# Altium footprint library HW_IPC-to-MCU-V1_V1.PcbLib: 28 footprints (part 1 of 2)
Each footprint in its own frame and in the unit in brackets; x right, y up, seen from the top. Pads: shape width x height; smd on the part's side, far side on the other; paste and mask are expansions set on the pad; w line width, h text height; cw(c..) or ccw(c..) is an arc to the next point about the centre after c.
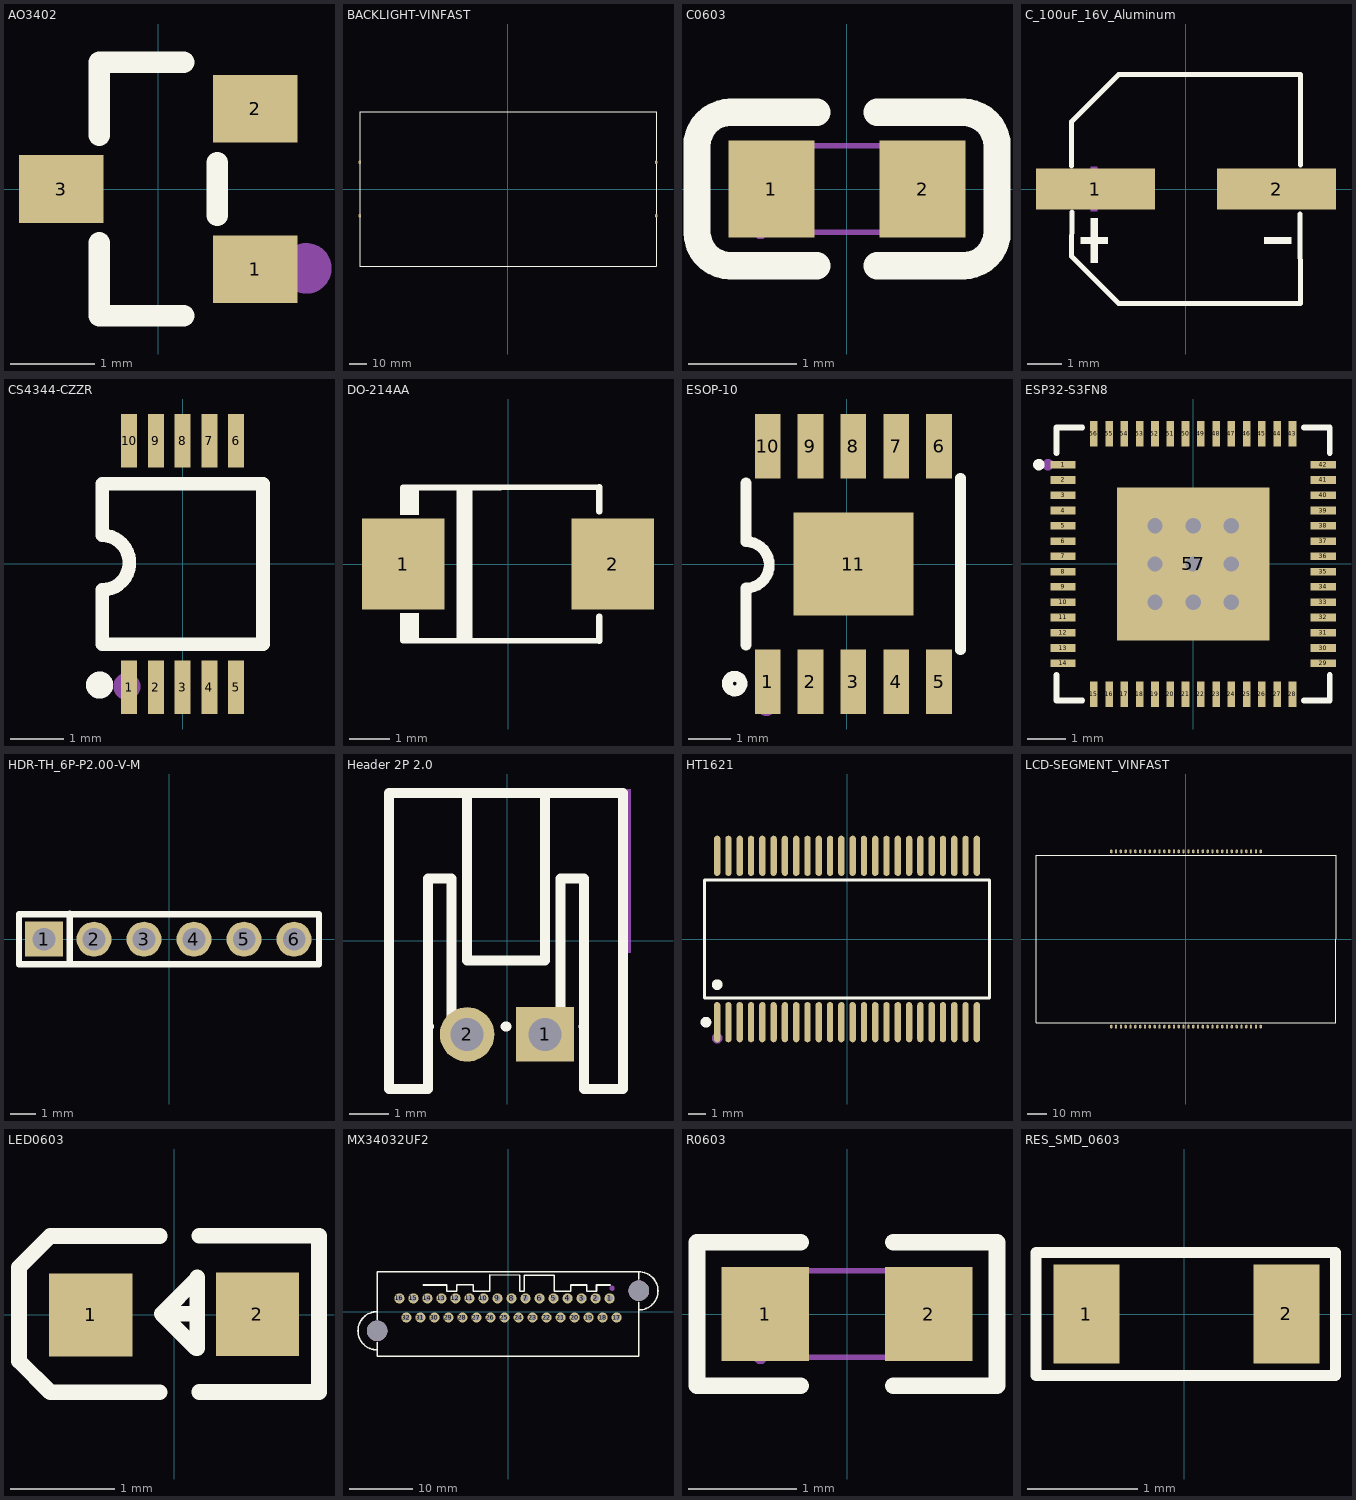
[diagram p0: the footprints below, top view; thin cyan lines are the x and y axes]

## AO3402 [mm]
pads (3):
  rect 1x0.8 smd paste+0 mask+0.051: 1(1.15,-0.95) 2(1.15,0.95) 3(-1.15,0)
Top Overlay:
  lines w0.254: -0.7,-0.636 -0.7,-1.5 0.3,-1.5 ; -0.7,0.636 -0.7,1.5 0.3,1.5 ; 0.7,-0.314 0.7,0.314
Mechanical 15:
  circle w0.3: c1.753,-0.94 r0.15
3D body "SOT23-3.step": height 1.1, standoff 0, extent -1.251,-1.499 1.249,1.499

## BACKLIGHT-VINFAST [mm]
pads (4):
  oval 1.2x2 hole 0.8: 1(-83.5,15) 2(-83.5,-15) 3(83.5,-15) 4(83.5,15)
Top Overlay:
  lines w0.254: -83.5,-43.5 -83.5,43.5 83.5,43.5 83.5,-43.5 -83.5,-43.5
3D body "Back light.stp": height 3.6, standoff 0.3, extent -85,-43.5 85,43.5

## C0603 [mm]
pads (2):
  rect 0.8x0.9 smd: 1(-0.7,0) 2(0.7,0)
Top Overlay:
  lines w0.254: -1.08,-0.71 -0.28,-0.71 ; -1.08,0.71 -0.28,0.71 ; -1.08,-0.71 cw(c-1.08,-0.4) -1.39,-0.4 -1.39,0.4 cw(c-1.08,0.4) -1.08,0.71 ; 0.28,-0.71 1.08,-0.71 ccw(c1.08,-0.4) 1.39,-0.4 1.39,0.4 ccw(c1.08,0.4) 1.08,0.71 0.28,0.71
Mechanical 15:
  region: -0.8,-0.4 -0.8,0.4 -0.5,0.4 -0.5,-0.4
  region: 0.8,-0.4 0.8,0.4 0.5,0.4 0.5,-0.4
  region: -0.74,-0.4 -0.74,-0.425 -0.775,-0.46 -0.825,-0.46 -0.86,-0.425 -0.86,-0.4 -0.86,-0.375 -0.825,-0.34 -0.775,-0.34 -0.74,-0.375
  lines w0.051: -0.8,-0.4 -0.8,0.4 0.8,0.4 0.8,-0.4 -0.8,-0.4
3D body "C0603.step": height 0.4, standoff 0, extent -0.8,-0.4 0.8,0.4

## C_100uF_16V_Aluminum [mm]
pads (2):
  rect 3.5x1.2 smd paste+0 mask+0.051: 1(-2.67,0) 2(2.67,0)
Top Overlay:
  region: 3.102,-1.419 3.102,-1.617 2.31,-1.617 2.31,-1.419
  region: -3.102,-1.419 -3.102,-1.617 -2.31,-1.617 -2.31,-1.419
  region: -2.805,-0.858 -2.805,-2.178 -2.607,-2.178 -2.607,-0.858
  lines w0.152: -3.376,0.686 -3.376,1.98 -1.98,3.376 3.376,3.376 3.369,0.708 ; -3.362,-0.686 -3.376,-1.981 -1.981,-3.376 3.376,-3.376 3.356,-0.739
Mechanical 15:
  region: 3.102,0.099 3.102,-0.099 2.31,-0.099 2.31,0.099
  region: -3.102,0.099 -3.102,-0.099 -2.31,-0.099 -2.31,0.099
  region: -2.81,0.66 -2.81,-0.66 -2.612,-0.66 -2.612,0.66
3D body "EEE1CA101WAP.STEP": height 5.8, standoff 0, extent -3.65,-3.3 3.65,3.3

## CS4344-CZZR [mm]
pads (10):
  rect 0.3x1 smd paste+0 mask+0.051: 1(-1,-2.3) 2(-0.5,-2.3) 3(0,-2.3) 4(0.5,-2.3) 5(1,-2.3) 6(1,2.3) 7(0.5,2.3) 8(0,2.3) 9(-0.5,2.3) 10(-1,2.3)
Top Overlay:
  circle w0.254: c-1.549,-2.261 r0.127
  lines w0.254: -1.501,-0.483 ccw(c-1.501,0.025) -1.5,0.533 -1.5,1.5 1.5,1.5 1.5,-1.5 -1.5,-1.5 -1.5,-0.483
Mechanical 15:
  circle w0.254: c-1.041,-2.286 r0.127
3D body "TSSOP-10-3mm.STEP": height 1.11, standoff 0, extent -1.5,-2.45 1.5,2.45

## DO-214AA [mm]
pads (2):
  rect 2.047x2.241 smd paste+0 mask+0.051: 1(-2.591,0) 2(2.591,0)
Top Overlay:
  region: -2.667,-1.905 -2.667,-1.215 -2.21,-1.215 -2.21,-1.905
  region: -2.667,1.905 -2.667,1.215 -2.21,1.215 -2.21,1.905
  region: -1.27,1.892 -1.27,-1.895 -0.889,-1.895 -0.889,1.893
  lines w0.152: -2.597,1.889 2.253,1.905 2.257,1.905 2.257,1.301 ; -2.593,-1.892 2.257,-1.905 2.257,-1.301
Mechanical 15:
  region: -3.492,-0.127 -3.492,0.127 -1.841,0.127 -1.841,-0.127
  region: 2.724,-0.828 2.47,-0.828 2.47,0.823 2.724,0.823
  region: 1.771,-0.129 1.771,0.125 3.422,0.125 3.422,-0.129
3D body "DO-214AA(SMB).SLDPRT": height 1.2, standoff -1.35, extent -2.774,-1.968 2.774,1.968

## ESOP-10 [mm]
pads (11):
  rect 0.6x1.5 smd paste+0 mask+0.051: 1(-1.843,-2.75) 2(-0.843,-2.75) 3(0.157,-2.75) 4(1.157,-2.75) 5(2.157,-2.75) 6(2.157,2.75) 7(1.157,2.75) 8(0.157,2.75) 9(-0.843,2.75) 10(-1.843,2.75)
  rect 2.8x2.4 smd paste+0 mask+0.051: 11(0.157,0)
Top Overlay:
  circle w0.254: c-2.613,-2.79 r0.171
  lines w0.254: -2.343,-1.887 -2.343,-0.564 ; -2.343,-0.563 ccw(c-2.347,-0.021) -2.343,0.52 -2.343,1.887 ; 2.657,-2 2.657,2
Mechanical 15:
  circle w0.2: c-1.873,-3.35 r0.1
3D body "ESOP-10.STEP": height 1.69, standoff 0.03, extent -2.233,-2.74 2.667,2.74

## ESP32-S3FN8 [mm]
pads (57):
  rect 0.665x0.2 smd paste-100 mask+0.051: 1(-3.408,2.6) 2(-3.408,2.2) 3(-3.408,1.8) 4(-3.408,1.4) 5(-3.408,1) 6(-3.408,0.6) 7(-3.408,0.2) 8(-3.408,-0.2) 9(-3.408,-0.6) 10(-3.408,-1) 11(-3.408,-1.4) 12(-3.408,-1.8) 13(-3.408,-2.2) 14(-3.408,-2.6) 29(3.408,-2.6) 30(3.408,-2.2) 31(3.408,-1.8) 32(3.408,-1.4) 33(3.408,-1) 34(3.408,-0.6) 35(3.408,-0.2) 36(3.408,0.2) 37(3.408,0.6) 38(3.408,1) 39(3.408,1.4) 40(3.408,1.8) 41(3.408,2.2) 42(3.408,2.6)
  rect 0.2x0.665 smd paste-100 mask+0.051: 15(-2.6,-3.408) 16(-2.2,-3.408) 17(-1.8,-3.408) 18(-1.4,-3.408) 19(-1,-3.408) 20(-0.6,-3.408) 21(-0.2,-3.408) 22(0.2,-3.408) 23(0.6,-3.408) 24(1,-3.408) 25(1.4,-3.408) 26(1.8,-3.408) 27(2.2,-3.408) 28(2.6,-3.408) 43(2.6,3.408) 44(2.2,3.408) 45(1.8,3.408) 46(1.4,3.408) 47(1,3.408) 48(0.6,3.408) 49(0.2,3.408) 50(-0.2,3.408) 51(-0.6,3.408) 52(-1,3.408) 53(-1.4,3.408) 54(-1.8,3.408) 55(-2.2,3.408) 56(-2.6,3.408)
  rect 4x4 smd paste-100 mask+0.051: 57(0,0)
via 1,0 diameter 0.7 hole 0.4
via 1,1 diameter 0.7 hole 0.4
via -1,0 diameter 0.7 hole 0.4
via -1,1 diameter 0.7 hole 0.4
via 1,-1 diameter 0.7 hole 0.4
via -1,-1 diameter 0.7 hole 0.4
via 0,0 diameter 0.7 hole 0.4
via 0.001,-1 diameter 0.7 hole 0.4
via 0,1 diameter 0.7 hole 0.4
Top Overlay:
  circle w0.15: c-4.04,2.6 r0.075
  lines w0.152: -3.576,-2.903 -3.576,-3.576 -2.903,-3.576 ; -3.576,2.903 -3.576,3.576 -2.903,3.576 ; 2.903,-3.576 3.576,-3.576 3.576,-2.903 ; 2.903,3.576 3.576,3.576 3.576,2.903
Top Paste:
  drawing of 57 lines, arcs and shapes, not listed
Mechanical 15:
  circle w0.15: c-3.8,2.6 r0.075
3D body "ESP32-S3FN8--3DModel-STEP-56544.STEP": height 0.9, standoff 0, extent -3.495,-3.5 3.505,3.5

## HDR-TH_6P-P2.00-V-M [mm]
pads (6):
  rect 1.524x1.4 hole 0.9 paste-2539.97 mask+0.051: 1(-5,-0.008)
  round 1.4 hole 0.9 paste-2539.97 mask+0.051: 2(-3,-0.008) 3(-1,-0.008) 4(1,-0.008) 5(3,-0.008) 6(5,-0.008)
Top Overlay:
  lines w0.254: -3.969,-0.897 -3.969,1.008 ; -6,-1.008 -6,0.992 6,0.992 6,-1.008 -6,-1.008

## Header 2P 2.0 [mm]
pads (2):
  rect 1.5x1.4 hole 0.85 paste-2539.97 mask+0.051: 1(0.963,-2.4)
  round 1.4 hole 0.85 paste-2539.97 mask+0.051: 2(-1.036,-2.4)
Top Overlay:
  lines w0.254: -2.018,-2.2 -2.036,-2.2 ; -1.436,-2.2 -1.436,1.6 -2.036,1.6 -2.036,-2.2 ; -1.036,3.8 -1.036,-0.5 0.963,-0.5 0.963,3.7 ; -0.055,-2.2 -0.018,-2.2 ; 1.363,-2.2 1.363,1.6 1.963,1.6 1.963,-2.2 ; 1.945,-2.2 1.963,-2.2 ; 2.963,3.759 2.963,-3.8 1.963,-3.8 1.963,-2.2 ; 2.963,3.8 -3.036,3.8 -3.036,-3.8 -2.036,-3.8 -2.036,-2.2
Mechanical 15:
  region: 3.163,3.9 3.163,-0.3 2.863,-0.3 2.863,3.7 -2.936,3.7 -2.936,-0.2 -3.136,-0.2 -3.136,3.9
3D body "header 2 cong.stp": height 6.01, standoff 0.01, extent -3.607,-3.81 3.503,3.81

## HT1621 [mil]
pads (48):
  oval 14x89.24 smd paste+0 mask+2: 1(-287.5,-184.19) 2(-262.5,-184.19) 3(-237.5,-184.19) 4(-212.5,-184.19) 5(-187.5,-184.19) 6(-162.5,-184.19) 7(-137.5,-184.19) 8(-112.5,-184.19) 9(-87.5,-184.19) 10(-62.5,-184.19) 11(-37.5,-184.19) 12(-12.5,-184.19) 13(12.5,-184.19) 14(37.5,-184.19) 15(62.5,-184.19) 16(87.5,-184.19) 17(112.5,-184.19) 18(137.5,-184.19) 19(162.5,-184.19) 20(187.5,-184.19) 21(212.5,-184.19) 22(237.5,-184.19) 23(262.5,-184.19) 24(287.5,-184.19) 25(287.5,184.19) 26(262.5,184.19) 27(237.5,184.19) 28(212.5,184.19) 29(187.5,184.19) 30(162.5,184.19) 31(137.5,184.19) 32(112.5,184.19) 33(87.5,184.19) 34(62.5,184.19) 35(37.5,184.19) 36(12.5,184.19) 37(-12.5,184.19) 38(-37.5,184.19) 39(-62.5,184.19) 40(-87.5,184.19) 41(-112.5,184.19) 42(-137.5,184.19) 43(-162.5,184.19) 44(-187.5,184.19) 45(-212.5,184.19) 46(-237.5,184.19) 47(-262.5,184.19) 48(-287.5,184.19)
Top Overlay:
  circle w11.81: c-287.5,-100.95 r5.91
  circle w11.81: c-312.31,-184.19 r5.91
  lines w6: -315.5,-130.57 -315.5,130.57 315.5,130.57 315.5,-130.57 -315.5,-130.57
Mechanical 15:
  circle w11.81: c-287.5,-219.49 r5.91
3D body "48SSOP.stp": height 103, standoff 0, extent -308,-209.76 322,207.76

## LCD-SEGMENT_VINFAST [mm]
pads (64):
  oval 1.2x2 hole 0.8: 1(-39.37,46.15) 2(-36.83,46.15) 3(-34.33,46.15) 4(-31.75,46.15) 5(-29.21,46.15) 6(-26.67,46.15) 7(-24.13,46.15) 8(-21.59,46.15) 9(-19.05,46.15) 10(-16.51,46.15) 11(-13.97,46.15) 12(-11.43,46.15) 13(-8.89,46.15) 14(-6.35,46.15) 15(-3.81,46.15) 16(-1.27,46.15) 17(1.27,46.15) 18(3.81,46.15) 19(6.35,46.15) 20(8.89,46.15) 21(11.43,46.15) 22(13.97,46.15) 23(16.51,46.15) 24(19.05,46.15) 25(21.59,46.15) 26(24.13,46.15) 27(26.67,46.15) 28(29.21,46.15) 29(31.75,46.15) 30(34.29,46.15) 31(36.83,46.15) 32(39.37,46.15) 33(-39.37,-46.15) 34(-36.83,-46.15) 35(-34.29,-46.15) 36(-31.75,-46.15) 37(-29.21,-46.15) 38(-26.67,-46.15) 39(-24.13,-46.15) 40(-21.59,-46.15) 41(-19.05,-46.15) 42(-16.51,-46.15) 43(-13.97,-46.15) 44(-11.43,-46.15) 45(-8.89,-46.15) 46(-6.35,-46.15) 47(-3.81,-46.15) 48(-1.27,-46.15) 49(1.27,-46.15) 50(3.81,-46.15) 51(6.35,-46.15) 52(8.89,-46.15) 53(11.43,-46.15) 54(13.97,-46.15) 55(16.51,-46.15) 56(19.05,-46.15) 57(21.59,-46.15) 58(24.13,-46.15) 59(26.67,-46.15) 60(29.21,-46.15) 61(31.75,-46.15) 62(34.29,-46.15) 63(36.83,-46.15) 64(39.37,-46.15)
Top Overlay:
  lines w0.254: 78.994,-44 -79,-44 -79,44 78.994,44 ; 79,-44 79,44
3D body "LCD.stp": height 6.4, standoff 3.6, extent -80,-46 80,46

## LED0603 [mm]
pads (2):
  rect 0.8x0.8 smd paste+0 mask+0.051: 1(-0.799,-0.004) 2(0.799,0.004)
Top Overlay:
  lines w0.15: -0.14,-0.746 -1.19,-0.746 -1.49,-0.446 -1.49,-0.346 -1.49,0.354 -1.49,0.454 -1.19,0.754 -0.14,0.754 ; 0.22,0.007 -0.12,0.007 ; 0.24,-0.744 1.39,-0.744 ; 0.24,0.757 1.39,0.757 1.39,-0.723 ; -0.12,0.007 0.22,0.347 0.22,0.357 0.22,-0.324 0.21,-0.324 -0.12,0.007
Mechanical 15:
  region: -1.07,0.061 -0.53,0.061 -0.53,-0.069 -1.07,-0.069
  region: 0.735,-0.267 0.735,0.273 0.865,0.273 0.865,-0.267
  region: 0.529,0.068 1.069,0.068 1.069,-0.062 0.529,-0.062
3D body "LED0603.STEP": height 0.7, standoff 0, extent -0.8,-0.419 0.8,0.381

## MX34032UF2 [mm]
pads (34):
  round 1.6 hole 1 paste-2539.97 mask+0.051: 1(15.95,2.058) 2(13.75,2.058) 3(11.55,2.058) 4(9.35,2.058) 5(7.15,2.058) 6(4.95,2.058) 7(2.75,2.058) 8(0.55,2.058) 9(-1.65,2.058) 10(-3.85,2.058) 11(-6.05,2.058) 12(-8.25,2.058) 13(-10.45,2.058) 14(-12.65,2.058) 15(-14.85,2.058) 16(-17.05,2.058) 17(17.05,-0.942) 18(14.85,-0.942) 19(12.65,-0.942) 20(10.45,-0.942) 21(8.25,-0.942) 22(6.05,-0.942) 23(3.85,-0.942) 24(1.65,-0.942) 25(-0.55,-0.942) 26(-2.75,-0.942) 27(-4.95,-0.942) 28(-7.15,-0.942) 29(-9.35,-0.942) 30(-11.55,-0.942) 31(-13.75,-0.942) 32(-15.95,-0.942)
  round 3.2 hole 3.2 unplated paste-2539.97: ""(-20.55,-3.042) ""(20.55,3.258)
Top Overlay:
  lines w0.254: -20.55,-6.028 cw(c-20.55,-3.028) -20.55,-0.028 ; -20.55,-4.835 -20.55,-7.042 20.55,-7.042 20.55,1.465 ; -20.55,-1.249 -20.55,6.258 20.55,6.258 ; 20.55,0.244 ccw(c20.55,3.244) 20.55,6.244 20.55,5.051 ; -9.6,3.207 -9.6,4.155 ; -9.6,3.207 -8.05,3.207 ; -9.6,3.207 -9.6,4.155 ; -9.6,4.155 -13.3,4.155 -9.6,4.155 ; -8.05,3.207 -8.051,4.206 ; -8.05,3.207 -8.051,4.206 ; -8.051,4.206 -5.451,4.206 ; -8.051,4.206 -5.451,4.206 ; -5.451,4.206 -5.449,3.206 ; -5.451,4.206 -5.449,3.206 ; -5.449,3.206 -2.851,3.206 ; -2.851,3.206 -2.85,5.755 ; -2.851,3.206 -2.85,5.755 ; -2.85,5.755 1.85,5.705 ; -2.85,5.755 1.85,5.705 ; 1.851,3.206 1.85,5.705 ; 1.851,3.206 2.549,3.206 ; 1.851,3.206 1.85,5.705 ; 2.549,3.206 2.55,5.705 ; 2.549,3.206 2.55,5.705 ; 2.55,5.705 7.25,5.707 ; 2.55,5.705 7.25,5.707 ; 7.25,3.207 7.25,5.707 ; 7.25,3.207 7.25,5.707 ; 7.25,3.207 9.85,3.207 ; 9.85,3.207 9.85,4.157 ; 9.85,3.207 9.85,4.157 ; 9.85,4.157 12.35,4.157 ; 9.85,4.157 12.35,4.157 ; 12.35,3.207 12.35,4.157 ; 12.35,3.207 12.35,4.157 ; 12.35,3.207 13.9,3.207 ; 13.9,3.207 13.9,4.155 ; 13.9,3.207 13.9,4.155 ; 13.9,4.155 16.05,4.155 13.9,4.155
Mechanical 15:
  circle w0.4: c16.356,3.651 r0.2
  circle w1.6: c20.55,3.258 r0.8
  circle w1.6: c-20.55,-3.042 r0.8
3D body "K3D-MX34032UF2-V2_JAE_Proprietary.step": height 24.09, standoff -2.81, extent -23.525,-7.087 23.554,6.313

## R0603 [mm]
pads (2):
  rect 0.806x0.864 smd paste-100 mask+0.051: 1(-0.753,0) 2(0.753,0)
Top Overlay:
  lines w0.152: -0.426,-0.661 -1.385,-0.661 -1.385,0.661 -0.426,0.661 ; 0.426,-0.661 1.385,-0.661 1.385,0.661 0.426,0.661
Top Paste:
  region: -1.195,-0.45 -0.395,-0.45 -0.345,-0.4 -0.345,-0.172 -0.715,-0.172 -0.715,0.158 -0.345,0.158 -0.345,0.4 -0.395,0.45 -1.195,0.45 -1.245,0.4 -1.245,-0.4
  region: 1.195,0.45 0.395,0.45 0.345,0.4 0.345,0.172 0.715,0.172 0.715,-0.158 0.345,-0.158 0.345,-0.4 0.395,-0.45 1.195,-0.45 1.245,-0.4 1.245,0.4
Mechanical 15:
  region: 0.8,-0.4 0.8,0.4 0.5,0.4 0.5,-0.4
  region: -0.8,-0.4 -0.8,0.4 -0.5,0.4 -0.5,-0.4
  region: -0.74,-0.4 -0.74,-0.425 -0.775,-0.46 -0.825,-0.46 -0.86,-0.425 -0.86,-0.4 -0.86,-0.375 -0.825,-0.34 -0.775,-0.34 -0.74,-0.375
  lines w0.051: -0.8,-0.4 0.8,-0.4 0.8,0.4 -0.8,0.4 -0.8,-0.4
3D body "R0603.step": height 0.45, standoff 0, extent -0.8,-0.4 0.8,0.4

## RES_SMD_0603 [mm]
pads (2):
  rect 0.6x0.9 smd: 1(-0.889,0) 2(0.927,0)
Top Overlay:
  lines w0.1: -1.346,-0.559 1.372,-0.559 ; -1.346,0.559 1.372,0.559
  lines w0.102: -1.346,-0.559 -1.346,0.559 ; 1.372,-0.559 1.372,0.559
3D body "User Library-SMD RESISTOR-1 (3).step": height 0.43, standoff -0.03, extent -0.8,-0.4 0.8,0.4